# Altium footprint library R2512-STD.PcbLib: 1 footprints
Each footprint in its own frame and in the unit in brackets; x right, y up, seen from the top. Pads: shape width x height; smd on the part's side, far side on the other; paste and mask are expansions set on the pad; w line width, h text height; cw(c..) or ccw(c..) is an arc to the next point about the centre after c.
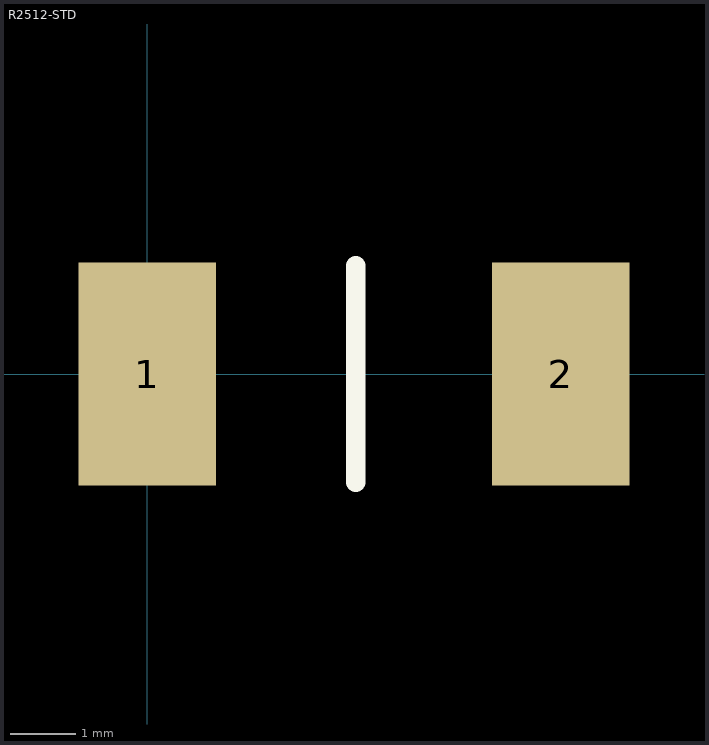
[diagram p0: the footprint, top view; thin cyan lines are the x and y axes]

## R2512-STD [mm]
pads (2):
  rect 2.1x3.4 smd: 1(0,0) 2(6.3,0)
Top Overlay:
  lines w0.3: 3.175,-1.651 3.175,1.651
3D body: height 0.62, standoff 0, extent 0.016,-1.6 6.335,1.6